# Altium schematic symbol library NPN.Schlib: 1 symbol
Pins are listed as number, name and electrical type; pins without a type are passive.

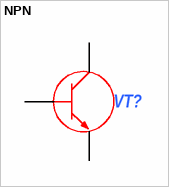
[diagram p0: symbol NPN]

## NPN
designator VT?  (value not drawn)
Транз. N-P-N
pins: 1, 2, 3